# EAGLE library part ARDUINO-MEGA (library SparkFun-Minimal-Shields)
Arduino Mega board footprint
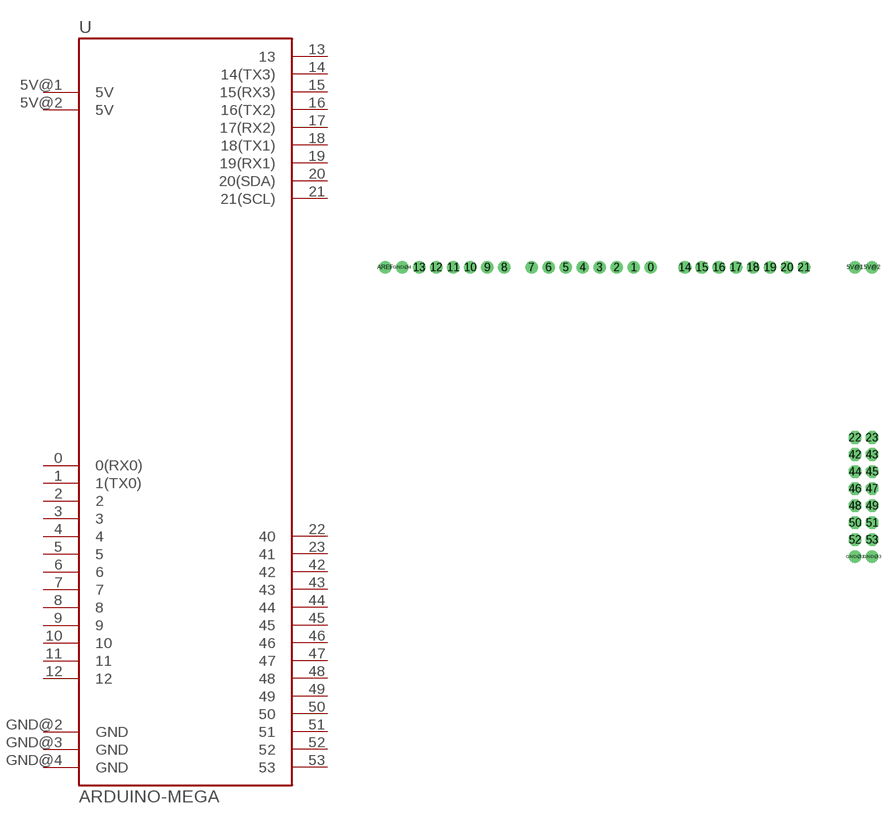
[diagram p0: symbol with the pads of ARDUINO_MEGA-PRO-5V; footprint ARDUINO_MEGA-PRO-5V]

Designator prefix U

## ARDUINO-MEGAPRO-5V  [ARDUINO_MEGA-PRO-5V]
0  0(RX0)
1  1(TX0)
2  2
3  3
4  4
5  5
5V@1  5V
5V@2  5V
6  6
7  7
8  8
9  9
10  10
11  11
12  12
13  13
14  14(TX3)
15  15(RX3)
16  16(TX2)
17  17(RX2)
18  18(TX1)
19  19(RX1)
20  20(SDA)
21  21(SCL)
22  40
23  41
42  42
43  43
44  44
45  45
46  46
47  47
48  48
49  49
50  50
51  51
52  52
53  53
GND@2  GND
GND@3  GND
GND@4  GND

## Footprint ARDUINO_MEGA-PRO-5V (pad centres in mm)
drill 1.016 pad 1.88: 0 -31.75,3.81; 1 -34.29,3.81; 2 -36.83,3.81; 3 -39.37,3.81; 4 -41.91,3.81; 5 -44.45,3.81; 5V@1 -1.27,3.81; 5V@2 1.27,3.81; 6 -46.99,3.81; 7 -49.53,3.81; 8 -53.594,3.81; 9 -56.134,3.81; 10 -58.674,3.81; 11 -61.214,3.81; 12 -63.754,3.81; 13 -66.294,3.81; 14 -26.67,3.81; 15 -24.13,3.81; 16 -21.59,3.81; 17 -19.05,3.81; 18 -16.51,3.81; 19 -13.97,3.81; 20 -11.43,3.81; 21 -8.89,3.81; AREF -71.374,3.81; GND@2 -1.27,-39.37; GND@3 1.27,-39.37; GND@4 -68.834,3.81
drill 1.016 pad 1.88 octagon: 22 -1.27,-21.59; 23 1.27,-21.59; 42 -1.27,-24.13; 43 1.27,-24.13; 44 -1.27,-26.67; 45 1.27,-26.67; 46 -1.27,-29.21; 47 1.27,-29.21; 48 -1.27,-31.75; 49 1.27,-31.75; 50 -1.27,-34.29; 51 1.27,-34.29; 52 -1.27,-36.83; 53 1.27,-36.83